# EAGLE library part SM06B-SRSS (library con-JST SH)
JST SH series header 1.00mm pitch disconnectable crimp style connectors, horizontal (side entry type), 6 pins
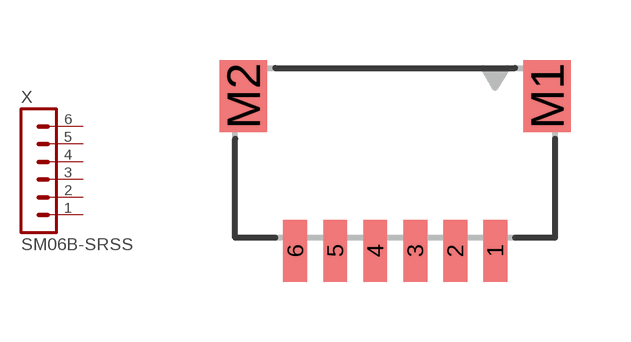
[diagram p10: symbol with the pads of SM06B-SRSS-TB; footprint SM06B-SRSS-TB]

Designator prefix X

## SM06B-SRSS-TB  [SM06B-SRSS-TB]
1  1  pas
2  2  pas
3  3  pas
4  4  pas
5  5  pas
6  6  pas

## Footprint SM06B-SRSS-TB (pad centres in mm)
JST SH series header 1.00mm pitch disconnectable crimp style connectors, SMT horizontal (side entry type), 6 pins
smd 0.6 x 1.55: 1 2.5,0; 2 1.5,0; 3 0.5,0; 4 -0.5,0; 5 -1.5,0; 6 -2.5,0
smd 1.2 x 1.8: M1 3.8,3.875; M2 -3.8,3.875